# EAGLE library part 662008230822 (library Wire-to-Board (rev18a))
WR-MPC3 3.00mm Male Dual Row SMT Angled Header Through Hole Retention Clip, 8 Pins=>Code : Con_WTB_MPC3_2_PCB_SMT_662008230822 <http://katalog.we-online.de/media/thumbs2/eican/thb_Con_WTB_MPC3_2_PCB_SMT_6620xx230822_pf2.jpg> Details see: http://katalog.we-online.de/en/em/MPC3_3_00_SMT_MALE_DUAL_ROW_ANGLED_HEADER_W_THT_RETENTION_CLIP_6621XX230822 Created 2014-06-06, Karrer Zheng 2014 (C) Würth Elektronik
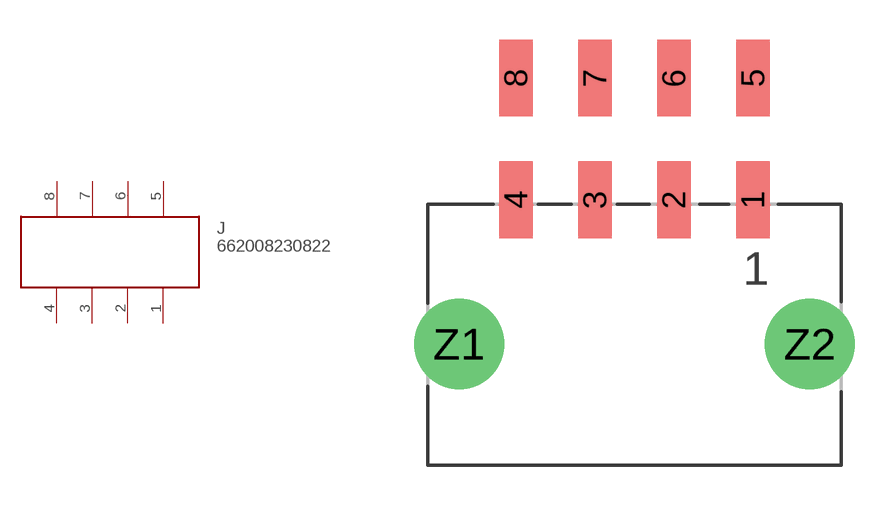
[diagram p340: symbol with the pads of 662008230822; footprint 662008230822]

Designator prefix J

## 662008230822  [662008230822]
1  1
2  2
3  3
4  4
5  5
6  6
7  7
8  8

## Footprint 662008230822 (pad centres in mm)
WR-MPC3 3.00mm Male Dual Row SMT Angled Header Through Hole Retention Clip, 8 Pins
smd 1.27 x 2.92: 1 4.5,5.48; 2 1.5,5.48; 3 -1.5,5.48; 4 -4.5,5.48; 5 4.5,10.1; 6 1.5,10.1; 7 -1.5,10.1; 8 -4.5,10.1
drill 2.41: Z1 -6.66,0; Z2 6.66,0